# Altium footprint library LEDs.PcbLib: 2 footprints
Each footprint in its own frame and in the unit in brackets; x right, y up, seen from the top. Pads: shape width x height; smd on the part's side, far side on the other; paste and mask are expansions set on the pad; w line width, h text height; cw(c..) or ccw(c..) is an arc to the next point about the centre after c.
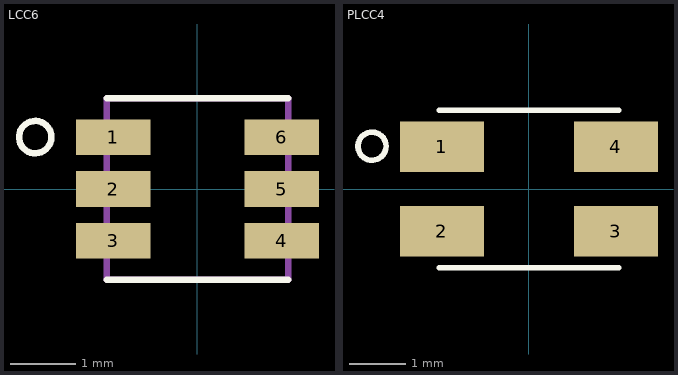
[diagram p0: the footprints below, top view; thin cyan lines are the x and y axes]

## LCC6 [mm]
pads (6):
  rect 1.15x0.55 smd: 1(-1.3,0.8) 2(-1.3,0) 3(-1.3,-0.8) 4(1.3,-0.8) 5(1.3,0) 6(1.3,0.8)
Top Overlay:
  circle w0.1: c-2.5,0.8 r0.25
  lines w0.1: -1.4,-1.4 1.4,-1.4 ; -1.4,1.4 1.4,1.4
Mechanical 1:
  lines w0.1: -1.4,-1.4 1.4,-1.4 1.4,1.4 -1.4,1.4 -1.4,-1.4

## PLCC4 [mm]
pads (4):
  rect 1.5x0.9 smd: 1(-1.55,0.75) 2(-1.55,-0.75) 3(1.55,-0.75) 4(1.55,0.75)
Top Overlay:
  circle w0.1: c-2.794,0.762 r0.25
  lines w0.1: -1.6,-1.4 1.6,-1.4 ; -1.6,1.4 1.6,1.4